# EAGLE library part F30BUS-2X15_D (library PINHEADER)
PIN HEADER
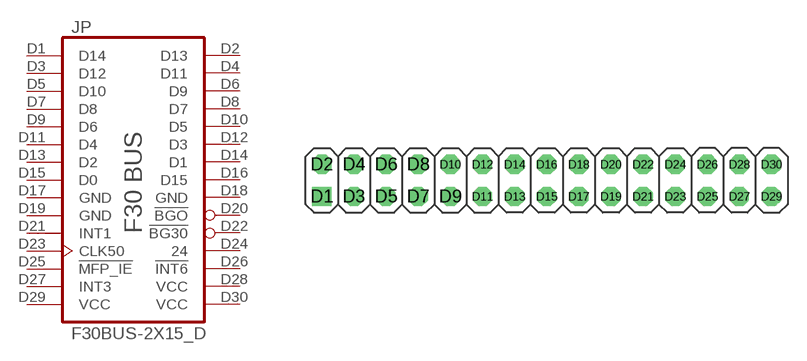
[diagram p3: symbol with the pads of F30BUS-2X15_D; footprint F30BUS-2X15_D]

Designator prefix JP

## F30BUS-2X15_D_2.54  [F30BUS-2X15_D]
D1  D14  pas
D2  D13  pas
D3  D12  pas
D4  D11  pas
D5  D10  pas
D6  D9  pas
D7  D8  pas
D8  D7  pas
D9  D6  pas
D10  D5  pas
D11  D4  pas
D12  D3  pas
D13  D2  pas
D14  D1  pas
D15  D0  pas
D16  D15  pas
D17  GND  pas
D18  GND  pas
D19  GND  pas
D20  !BGO  pas
D21  INT1  pas
D22  !BG30  pas
D23  CLK50  pas
D24  24  pas
D25  !MFP_IE  pas
D26  !INT6  pas
D27  INT3  pas
D28  VCC  pas
D29  VCC  pas
D30  VCC  pas

## Footprint F30BUS-2X15_D (pad centres in mm)
PIN HEADER - 2.54
drill 1.016 square: D1 -17.78,-1.27
drill 1.016 octagon: D2 -17.78,1.27; D3 -15.24,-1.27; D4 -15.24,1.27; D5 -12.7,-1.27; D6 -12.7,1.27; D7 -10.16,-1.27; D8 -10.16,1.27; D9 -7.62,-1.27; D10 -7.62,1.27; D11 -5.08,-1.27; D12 -5.08,1.27; D13 -2.54,-1.27; D14 -2.54,1.27; D15 0,-1.27; D16 0,1.27; D17 2.54,-1.27; D18 2.54,1.27; D19 5.08,-1.27; D20 5.08,1.27; D21 7.62,-1.27; D22 7.62,1.27; D23 10.16,-1.27; D24 10.16,1.27; D25 12.7,-1.27; D26 12.7,1.27; D27 15.24,-1.27; D28 15.24,1.27; D29 17.78,-1.27; D30 17.78,1.27